# EAGLE library part HR911130A (library HR911130A)
SINGLE PORT RJ45 CONNECTOR WITH INTEGRATED MAGNETICS AND LED Source: Datasheet <https://datasheet.lcsc.com/szlcsc/Zhongshan-HanRun-Elec-HR911130A_C54408.pdf>
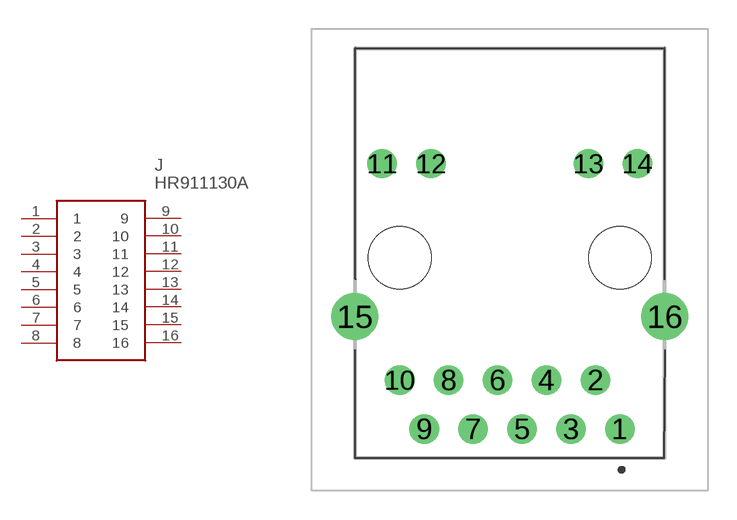
[diagram p0: symbol with the pads of HR911130A; footprint HR911130A]

Designator prefix J

## HR911130A (Description: SINGLE PORT RJ45 CONNECTOR WITH INTEGRATED MAGNETICS AND LED; Height: 13mm; Manufacturer_Name: Hanrun Electronics; Manufacturer_Part_Number: HR911130A)  [HR911130A]
1  1
2  2
3  3
4  4
5  5
6  6
7  7
8  8
9  9
10  10
11  11
12  12
13  13
14  14
15  15
16  16

## Footprint HR911130A (pad centres in mm)
HR911130A
drill 0.99 pad 1.54: 1 5.715,-8.794; 2 4.445,-6.254; 3 3.175,-8.794; 4 1.905,-6.254; 5 0.635,-8.794; 6 -0.635,-6.254; 7 -1.905,-8.794; 8 -3.175,-6.254; 9 -4.445,-8.794; 10 -5.715,-6.254
drill 1.02 pad 1.53: 11 -6.625,4.996; 12 -4.085,4.996; 13 4.085,4.996; 14 6.625,4.996
drill 1.63 pad 2.445: 15 -8.05,-2.954; 16 8.05,-2.954
hole 3.25 at -5.715,0.096
hole 3.25 at 5.715,0.096